# EAGLE library part LUMBERG_DIN_0105_08-1 (library Lumberg-0105-DIN)
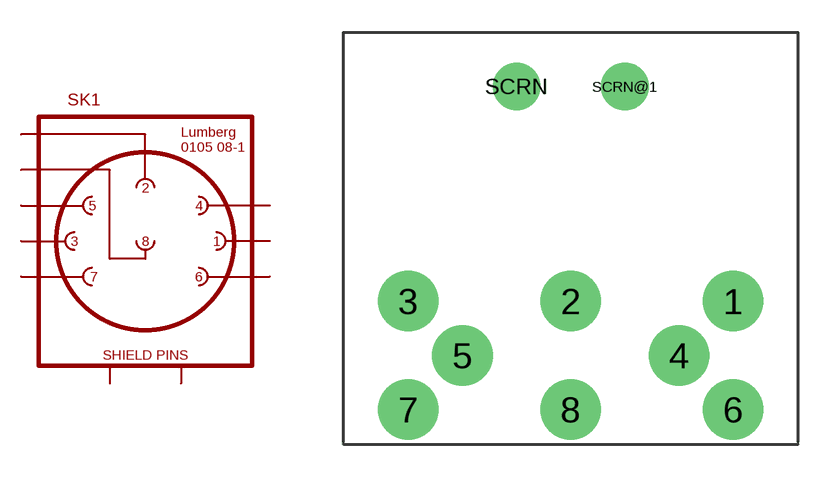
[diagram p0: symbol with the pads of 0105-08-1; footprint 0105-08-1]

Designator prefix SK1

## LUMBERG_DIN_0105_08-1  [0105-08-1]
1  1
2  2
3  3
4  4
5  5
6  6
7  7
8  8
SCRN  SHLD
SCRN@1  SHLD

## Footprint 0105-08-1 (pad centres in mm)
drill 1.6 pad 2.8: 1 7.5,2.5; 2 0,2.5; 3 -7.5,2.5; 4 5,0; 5 -5,0; 6 7.5,-2.5; 7 -7.5,-2.5; 8 0,-2.5
drill 1.2 pad 2.2: SCRN -2.5,12.4; SCRN@1 2.5,12.4